# Altium footprint library L_SDR0604_N.pcblib: 1 footprints
Each footprint in its own frame and in the unit in brackets; x right, y up, seen from the top. Pads: shape width x height; smd on the part's side, far side on the other; paste and mask are expansions set on the pad; w line width, h text height; cw(c..) or ccw(c..) is an arc to the next point about the centre after c.
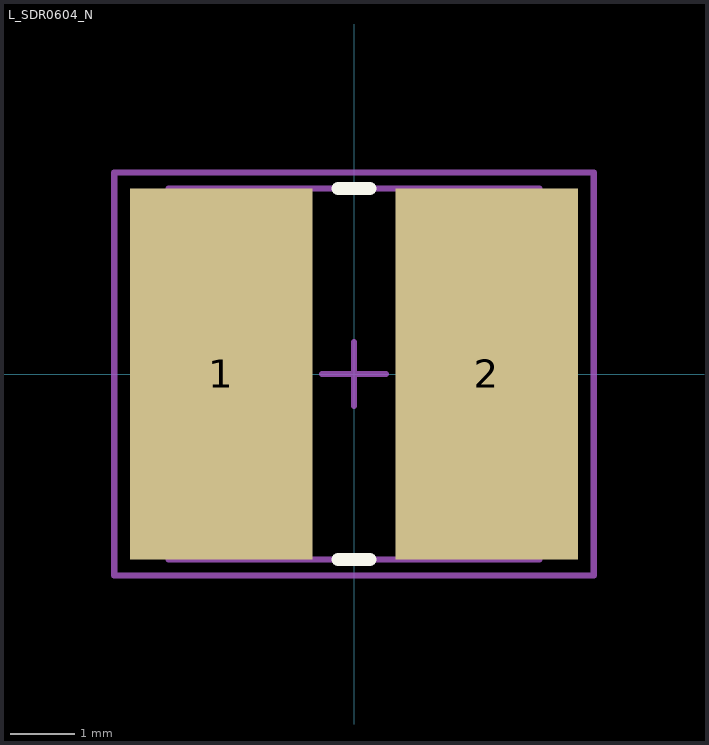
[diagram p0: the footprint, top view; thin cyan lines are the x and y axes]

## L_SDR0604_N [mm] "Precision Wire Wound Inductor, 2-Leads, Body 5,75x5,75mm, IPC Medium Density"
height 4.8
pads (2):
  rect 2.85x5.8 smd: 1(-2.075,0) 2(2.075,0)
Top Overlay:
  lines w0.2: -0.25,-2.9 0.25,-2.9 ; -0.25,2.9 0.25,2.9
Mechanical 13:
  lines w0.1: -2.9,-2.9 -2.9,2.9 2.9,2.9 2.9,-2.9 -2.9,-2.9
Mechanical 15:
  lines w0.1: -0.5,0 0.5,0 ; 0,-0.5 0,0.5 ; -3.75,-3.15 -3.75,3.15 3.75,3.15 3.75,-3.15 -3.75,-3.15
Mechanical 17:
  text "'.Designator'" at -3.048,-2.667 h0.38
Mechanical 19:
  text "'.Comment'" at -3.048,-2.667 h0.38
3D body "User Library-SDR0604.step": height 4.55, standoff 0, extent -2.754,-2.8 2.754,2.8